# Altium integrated library Altium_WR-DC_POWER_JACK_CONNECTORS (rev18b).IntLib: 18 symbols
Pins are listed as number, name and electrical type; pins without a type are passive.

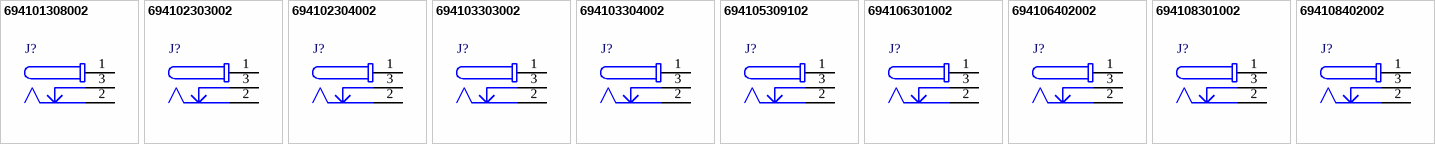
[diagram p0: symbols 694101308002 to 694108402002]

## 694101308002
designator J?
DC Power Jack Connector Low Profile WR-DC, Male, Right Angled, THT, 2 A, 12 V; Part Number: 694101308002; Opening Diameter: 2.8 mm; Plug Inner Diameter: 0.75 mm; Plug Outer Diameter: 2.35 mm; Rated Current: 2 A; Working Voltage: 12 V; ComponentLink1Description: Manufacturer; ComponentLink1URL: http://www.we-online.de; ComponentLink2Description: Datasheet; ComponentLink2URL: http://katalog.we-online.de/em/datasheet/694101308002.pdf; Published Date: August 2018; Publisher: Wurth Elektronik; Orientation: Right Angled; Operating Temperature: -40 to 85 degC; Mounting Technology: THT; Gender: Male; Packaging: Bag
footprint 694101308002
pins: 1, 2, 3

## 694102303002
designator J?
DC Power Jack Connector WR-DC, Male, Right Angled, THT, 2 A, 30 V; Part Number: 694102303002; Opening Diameter: 4.2 mm; Plug Inner Diameter: 1.05 mm; Plug Outer Diameter: 3.5 mm; Rated Current: 2 A; Working Voltage: 30 V; ComponentLink1Description: Manufacturer; ComponentLink1URL: http://www.we-online.de; ComponentLink2Description: Datasheet; ComponentLink2URL: http://katalog.we-online.de/em/datasheet/6941xx303002.pdf; Published Date: August 2018; Publisher: Wurth Elektronik; Orientation: Right Angled; Operating Temperature: -40 to 85 degC; Mounting Technology: THT; Gender: Male; Packaging: Bag
footprint 694102303002
pins: 1, 2, 3

## 694102304002
designator J?
DC Power Jack Connector Low Profile WR-DC, Male, Right Angled, THT, 2 A, 20 V; Part Number: 694102304002; Opening Diameter: 3.8 mm; Plug Inner Diameter: 1.05 mm; Plug Outer Diameter: 3.5 mm; Rated Current: 2 A; Working Voltage: 20 V; ComponentLink1Description: Manufacturer; ComponentLink1URL: http://www.we-online.de; ComponentLink2Description: Datasheet; ComponentLink2URL: http://katalog.we-online.de/em/datasheet/6941xx304002.pdf; Published Date: August 2018; Publisher: Wurth Elektronik; Orientation: Right Angled; Operating Temperature: -40 to 85 degC; Mounting Technology: THT; Gender: Male; Packaging: Tray
footprint 694102304002
pins: 1, 2, 3

## 694103303002
designator J?
DC Power Jack Connector WR-DC, Male, Right Angled, THT, 2 A, 30 V; Part Number: 694103303002; Opening Diameter: 4.2 mm; Plug Inner Diameter: 1.35 mm; Plug Outer Diameter: 3.5 mm; Rated Current: 2 A; Working Voltage: 30 V; ComponentLink1Description: Manufacturer; ComponentLink1URL: http://www.we-online.de; ComponentLink2Description: Datasheet; ComponentLink2URL: http://katalog.we-online.de/em/datasheet/6941xx303002.pdf; Published Date: August 2018; Publisher: Wurth Elektronik; Orientation: Right Angled; Operating Temperature: -40 to 85 degC; Mounting Technology: THT; Gender: Male; Packaging: Bag
footprint 694103303002
pins: 1, 2, 3

## 694103304002
designator J?
DC Power Jack Connector Low Profile WR-DC, Male, Right Angled, THT, 2 A, 20 V; Part Number: 694103304002; Opening Diameter: 3.8 mm; Plug Inner Diameter: 1.35 mm; Plug Outer Diameter: 3.5 mm; Rated Current: 2 A; Working Voltage: 20 V; ComponentLink1Description: Manufacturer; ComponentLink1URL: http://www.we-online.de; ComponentLink2Description: Datasheet; ComponentLink2URL: http://katalog.we-online.de/em/datasheet/6941xx304002.pdf; Published Date: August 2018; Publisher: Wurth Elektronik; Orientation: Right Angled; Operating Temperature: -40 to 85 degC; Mounting Technology: THT; Gender: Male; Packaging: Tray
footprint 694103304002
pins: 1, 2, 3

## 694105309102
designator J?
DC Power Jack Connector Shielded WR-DC, Male, Right Angled, THT, 5.5 A, 20 V; Part Number: 694105309102; Opening Diameter: 4.93 mm; Plug Inner Diameter: 1.75 mm; Plug Outer Diameter: 4.75 mm; Rated Current: 5.5 A; Working Voltage: 20 V; ComponentLink1Description: Manufacturer; ComponentLink1URL: http://www.we-online.de; ComponentLink2Description: Datasheet; ComponentLink2URL: http://katalog.we-online.de/em/datasheet/694105309102.pdf; Published Date: August 2018; Publisher: Wurth Elektronik; Orientation: Right Angled; Operating Temperature: -40 to 85 degC; Mounting Technology: THT; Gender: Male; Packaging: Tape and Reel
footprint 694105309102
pins: 1, 2, 3

## 694106301002
designator J?
DC Power Jack Connector WR-DC, Male, Right Angled, THT, 5 A, 24 V; Part Number: 694106301002; Opening Diameter: 6.4 mm; Plug Inner Diameter: 2.05 mm; Plug Outer Diameter: 5.5 mm; Rated Current: 5 A; Working Voltage: 24 V; ComponentLink1Description: Manufacturer; ComponentLink1URL: http://www.we-online.de; ComponentLink2Description: Datasheet; ComponentLink2URL: http://katalog.we-online.de/em/datasheet/6941xx301002.pdf; Published Date: August 2018; Publisher: Wurth Elektronik; Orientation: Right Angled; Operating Temperature: -40 to 85 degC; Mounting Technology: THT; Gender: Male; Packaging: Bag
footprint 694106301002
pins: 1, 2, 3

## 694106402002
designator J?
DC Power Jack Connector WR-DC, Male, Vertical, THT, 3 A, 20 V; Part Number: 694106402002; Opening Diameter: 6.4 mm; Plug Inner Diameter: 2.05 mm; Plug Outer Diameter: 5.5 mm; Rated Current: 3 A; Working Voltage: 20 V; ComponentLink1Description: Manufacturer; ComponentLink1URL: http://www.we-online.de; ComponentLink2Description: Datasheet; ComponentLink2URL: http://katalog.we-online.de/em/datasheet/6941xx402002.pdf; Published Date: August 2018; Publisher: Wurth Elektronik; Orientation: Vertical; Operating Temperature: -40 to 85 degC; Mounting Technology: THT; Gender: Male; Packaging: Bag
footprint 694106402002
pins: 1, 2, 3

## 694108301002
designator J?
DC Power Jack Connector WR-DC, Male, Right Angled, THT, 5 A, 24 V; Part Number: 694108301002; Opening Diameter: 6.4 mm; Plug Inner Diameter: 2.55 mm; Plug Outer Diameter: 5.5 mm; Rated Current: 5 A; Working Voltage: 24 V; ComponentLink1Description: Manufacturer; ComponentLink1URL: http://www.we-online.de; ComponentLink2Description: Datasheet; ComponentLink2URL: http://katalog.we-online.de/em/datasheet/6941xx301002.pdf; Published Date: August 2018; Publisher: Wurth Elektronik; Orientation: Right Angled; Operating Temperature: -40 to 85 degC; Mounting Technology: THT; Gender: Male; Packaging: Bag
footprint 694108301002
pins: 1, 2, 3

## 694108402002
designator J?
DC Power Jack Connector WR-DC, Male, Vertical, THT, 3 A, 20 V; Part Number: 694108402002; Opening Diameter: 6.4 mm; Plug Inner Diameter: 2.55 mm; Plug Outer Diameter: 5.5 mm; Rated Current: 3 A; Working Voltage: 20 V; ComponentLink1Description: Manufacturer; ComponentLink1URL: http://www.we-online.de; ComponentLink2Description: Datasheet; ComponentLink2URL: http://katalog.we-online.de/em/datasheet/6941xx402002.pdf; Published Date: August 2018; Publisher: Wurth Elektronik; Orientation: Vertical; Operating Temperature: -40 to 85 degC; Mounting Technology: THT; Gender: Male; Packaging: Bag
footprint 694108402002
pins: 1, 2, 3


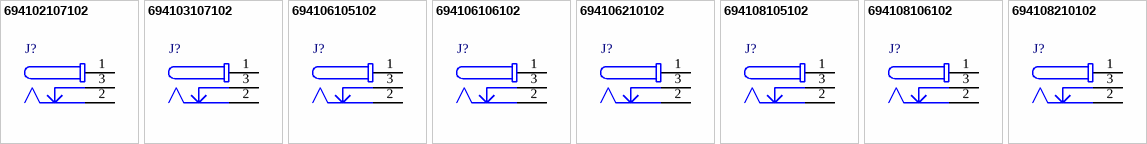
[diagram p1: symbols 694102107102 to 694108210102]

## 694102107102
designator J?
DC Power Jack Connector Low Profile with 4 soldering pads & Pegs WR-DC, Male, Right Angled, SMT, 5 A, 18 V; Part Number: 694102107102; Opening Diameter: 3.9 mm; Plug Inner Diameter: 1.05 mm; Plug Outer Diameter: 3.5 mm; Rated Current: 5 A; Working Voltage: 18 V; ComponentLink1Description: Manufacturer; ComponentLink1URL: http://www.we-online.de; ComponentLink2Description: Datasheet; ComponentLink2URL: http://katalog.we-online.de/em/datasheet/6941xx107102.pdf; Published Date: August 2018; Publisher: Wurth Elektronik; Orientation: Right Angled; Operating Temperature: -40 to 85 degC; Mounting Technology: SMT; Gender: Male; Packaging: Tape and Reel
footprint 694102107102
pins: 1, 2, 3

## 694103107102
designator J?
DC Power Jack Connector Low Profile with 4 soldering pads & Pegs WR-DC, Male, Right Angled, SMT, 5 A, 18 V; Part Number: 694103107102; Opening Diameter: 3.9 mm; Plug Inner Diameter: 1.35 mm; Plug Outer Diameter: 3.5 mm; Rated Current: 5 A; Working Voltage: 18 V; ComponentLink1Description: Manufacturer; ComponentLink1URL: http://www.we-online.de; ComponentLink2Description: Datasheet; ComponentLink2URL: http://katalog.we-online.de/em/datasheet/6941xx107102.pdf; Published Date: August 2018; Publisher: Wurth Elektronik; Orientation: Right Angled; Operating Temperature: -40 to 85 degC; Mounting Technology: SMT; Gender: Male; Packaging: Tape and Reel
footprint 694103107102
pins: 1, 2, 3

## 694106105102
designator J?
DC Power Jack Connector with Pegs WR-DC, Male, Right Angled, SMT, 5 A, 24 V; Part Number: 694106105102; Opening Diameter: 6.4 mm; Plug Inner Diameter: 2.05 mm; Plug Outer Diameter: 5.5 mm; Rated Current: 5 A; Working Voltage: 24 V; ComponentLink1Description: Manufacturer; ComponentLink1URL: http://www.we-online.de; ComponentLink2Description: Datasheet; ComponentLink2URL: http://katalog.we-online.de/em/datasheet/6941xx105102.pdf; Published Date: August 2018; Publisher: Wurth Elektronik; Orientation: Right Angled; Operating Temperature: -40 to 85 degC; Mounting Technology: SMT; Gender: Male; Packaging: Tape and Reel
footprint 694106105102
pins: 1, 2, 3

## 694106106102
designator J?
DC Power Jack Connector with 4 soldering pads & Pegs WR-DC, Male, Right Angled, SMT, 5 A, 24 V; Part Number: 694106106102; Opening Diameter: 6.4 mm; Plug Inner Diameter: 2.05 mm; Plug Outer Diameter: 5.5 mm; Rated Current: 5 A; Working Voltage: 24 V; ComponentLink1Description: Manufacturer; ComponentLink1URL: http://www.we-online.de; ComponentLink2Description: Datasheet; ComponentLink2URL: http://katalog.we-online.de/em/datasheet/6941xx106102.pdf; Published Date: August 2018; Publisher: Wurth Elektronik; Orientation: Right Angled; Operating Temperature: -40 to 85 degC; Mounting Technology: SMT; Gender: Male; Packaging: Tape and Reel
footprint 694106106102
pins: 1, 2, 3

## 694106210102
designator J?
DC Power Jack Connector with 3 soldering pads WR-DC, Male, Vertical, SMT, 3.5 A, 30 V; Part Number: 694106210102; Opening Diameter: 6.4 mm; Plug Inner Diameter: 2.05 mm; Plug Outer Diameter: 5.5 mm; Rated Current: 3.5 A; Working Voltage: 30 V; ComponentLink1Description: Manufacturer; ComponentLink1URL: http://www.we-online.de; ComponentLink2Description: Datasheet; ComponentLink2URL: http://katalog.we-online.de/em/datasheet/6941xx210102.pdf; Published Date: August 2018; Publisher: Wurth Elektronik; Orientation: Vertical; Operating Temperature: -20 to 85 degC; Mounting Technology: SMT; Gender: Male; Packaging: Tape and Reel
footprint 694106210102
pins: 1, 2, 3

## 694108105102
designator J?
DC Power Jack Connector with Pegs WR-DC, Male, Right Angled, SMT, 5 A, 24 V; Part Number: 694108105102; Opening Diameter: 6.4 mm; Plug Inner Diameter: 2.55 mm; Plug Outer Diameter: 5.5 mm; Rated Current: 5 A; Working Voltage: 24 V; ComponentLink1Description: Manufacturer; ComponentLink1URL: http://www.we-online.de; ComponentLink2Description: Datasheet; ComponentLink2URL: http://katalog.we-online.de/em/datasheet/6941xx105102%282%29.pdf; Published Date: August 2018; Publisher: Wurth Elektronik; Orientation: Right Angled; Operating Temperature: -40 to 85 degC; Mounting Technology: SMT; Gender: Male; Packaging: Tape and Reel
footprint 694108105102
pins: 1, 2, 3

## 694108106102
designator J?
DC Power Jack Connector with 4 soldering pads & Pegs WR-DC, Male, Right Angled, SMT, 5 A, 24 V; Part Number: 694108106102; Opening Diameter: 6.4 mm; Plug Inner Diameter: 2.55 mm; Plug Outer Diameter: 5.5 mm; Rated Current: 5 A; Working Voltage: 24 V; ComponentLink1Description: Manufacturer; ComponentLink1URL: http://www.we-online.de; ComponentLink2Description: Datasheet; ComponentLink2URL: http://katalog.we-online.de/em/datasheet/6941xx106102.pdf; Published Date: August 2018; Publisher: Wurth Elektronik; Orientation: Right Angled; Operating Temperature: -40 to 85 degC; Mounting Technology: SMT; Gender: Male; Packaging: Tape and Reel
footprint 694108106102
pins: 1, 2, 3

## 694108210102
designator J?
DC Power Jack Connector with 3 soldering pads WR-DC, Male, Vertical, SMT, 3.5 A, 30 V; Part Number: 694108210102; Opening Diameter: 6.4 mm; Plug Inner Diameter: 2.55 mm; Plug Outer Diameter: 5.5 mm; Rated Current: 3.5 A; Working Voltage: 30 V; ComponentLink1Description: Manufacturer; ComponentLink1URL: http://www.we-online.de; ComponentLink2Description: Datasheet; ComponentLink2URL: http://katalog.we-online.de/em/datasheet/6941xx210102.pdf; Published Date: August 2018; Publisher: Wurth Elektronik; Orientation: Vertical; Operating Temperature: -20 to 85 degC; Mounting Technology: SMT; Gender: Male; Packaging: Tape and Reel
footprint 694108210102
pins: 1, 2, 3